# EAGLE library part TPA6203A1 (library PR_Parts_Library)
IC AMP AUDIO PWR 1.25W AB 8MSOP
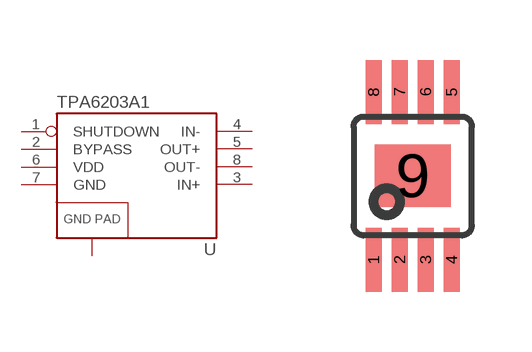
[diagram p3: symbol with the pads of 8-MSOP; footprint 8-MSOP]

Designator prefix -

## TPA6203A1 (MFG_PN: TPA6203A1DGNR)  [8-MSOP]
1  SHUTDOWN  in
2  BYPASS
3  IN+
4  IN-
5  OUT+
6  VDD  pwr
7  GND  pwr
8  OUT-
9  GND  pwr

## Footprint 8-MSOP (pad centres in mm)
8M, 8-Lead, 0.118" Wide, Miniature Small Outline Package MSOP 8M-Package doc1097.pdf
smd 0.4 x 1.6: 1 -0.975,-2.1; 2 -0.325,-2.1; 3 0.325,-2.1; 4 0.975,-2.1; 5 0.975,2.1; 6 0.325,2.1; 7 -0.325,2.1; 8 -0.975,2.1
smd 1.89 x 1.57: 9 0,0